# Altium integrated library Renesas Memory.IntLib: 284 symbols (part 1 of 9)
Pins are listed as number, name and electrical type; pins without a type are passive.

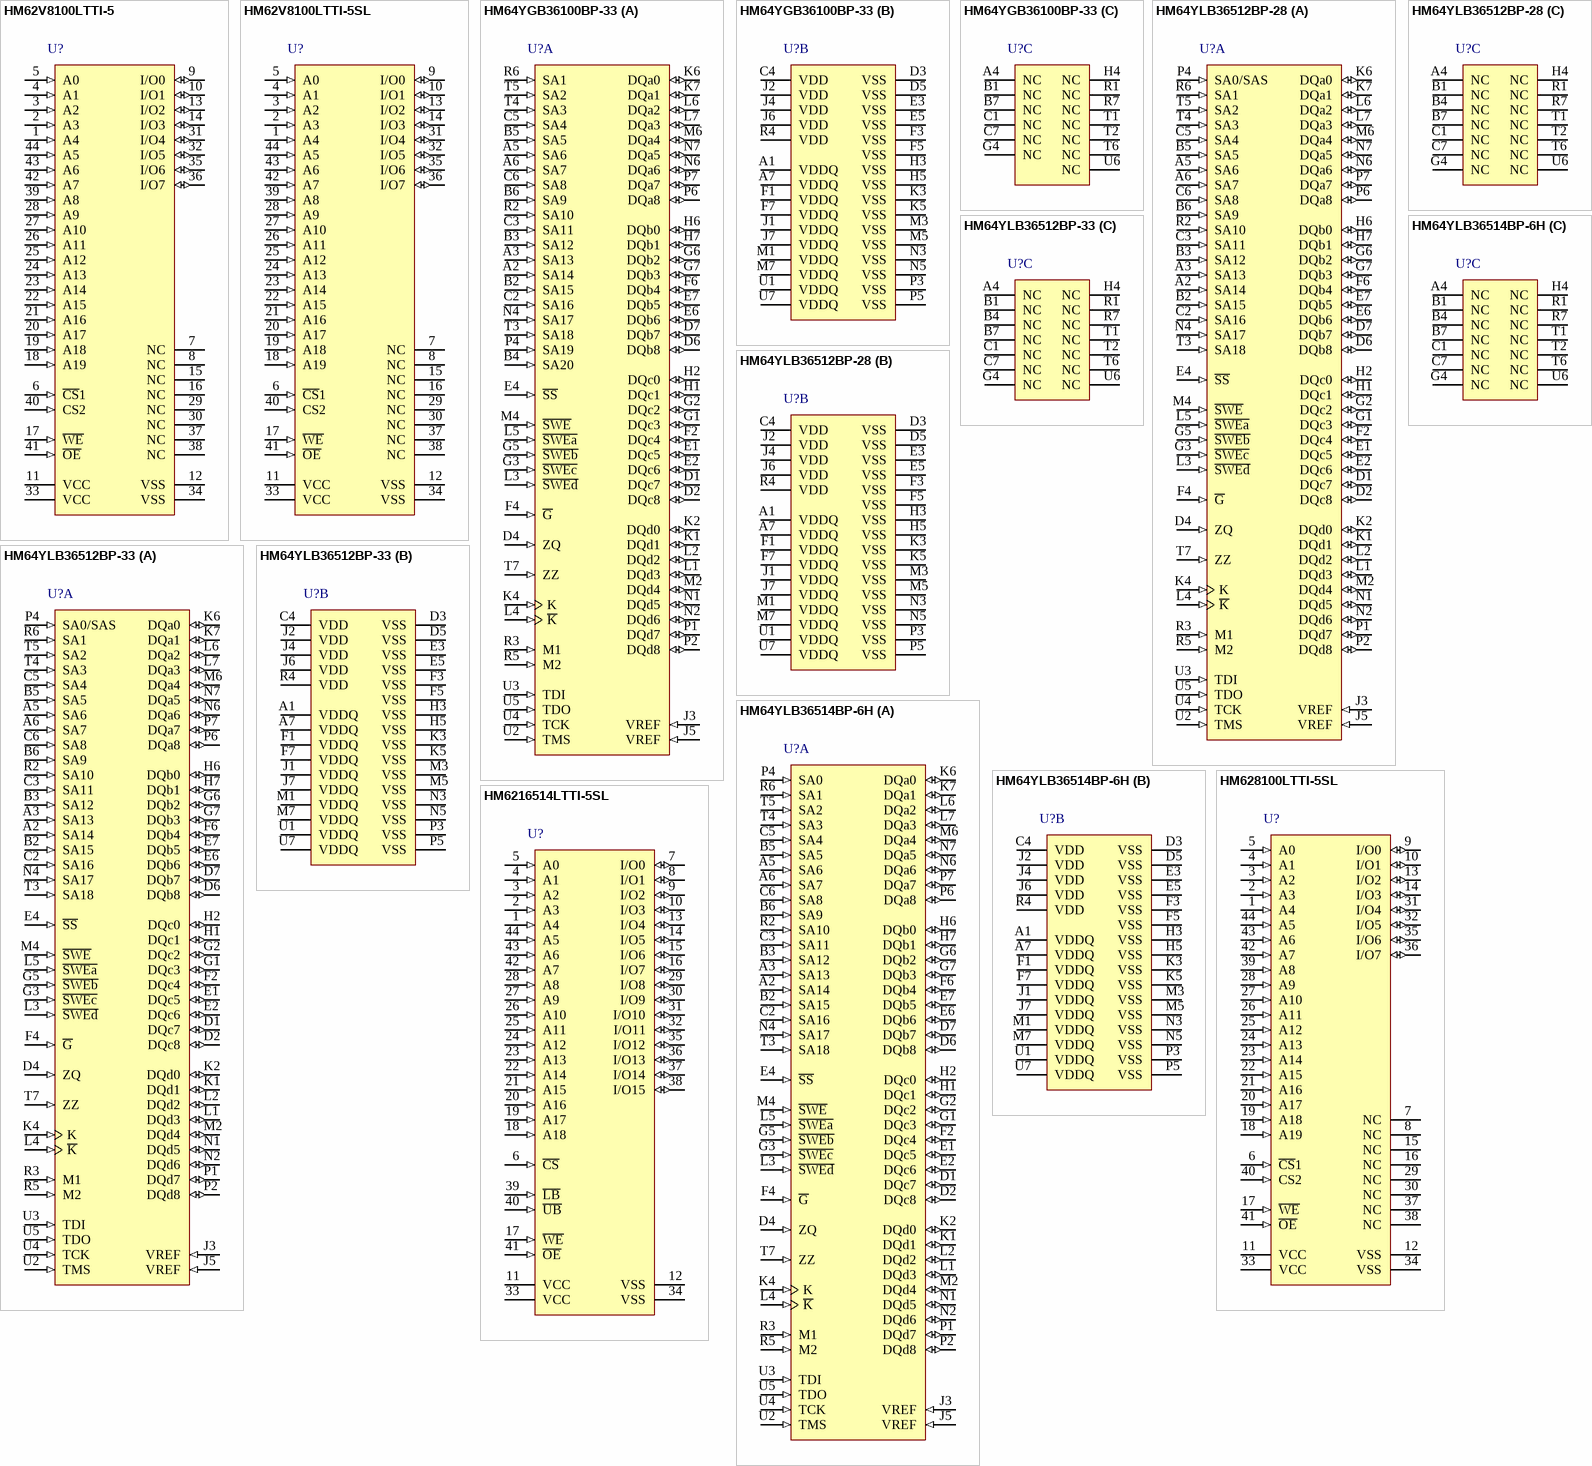
[diagram p0: symbols HM62V8100LTTI-5 to HM6216514LTTI-5SL]

## HM62V8100LTTI-5
designator U?
HM62V8100I Series 8M SRAM (1024-kword x 8-bit) Wide Temperature Range Version; Published: 3-Mar-2010; DatasheetVersion: Rev.1.00, May-2007; PackageVersion: Jun-2006; PackageReference: PTSB0044GC-A; Publisher: Altium Limited; PackageDescription: 44-Pin Plastic Small Outline Package 0.8 mm Pitch; Supplier 1: Digi-Key; Supplier Part Number 1: HM62V8100LTTI-5-ND; Code_JEITA: P-TSOP(2)44-10.16x18.41-0.80; ComponentLink1Description: Manufacturer Link; ComponentLink1URL: http://sg.renesas.com/products/memory/memory_category_landing.jsp; ComponentLink2Description: Datasheet; ComponentLink2URL: http://documentation.renesas.com/eng/products/memory/e2031278_hm62v8100i.pdf; ComponentLink3Description: Packaging Specification; ComponentLink3URL: http://sg.renesas.com/media/products/common_info/package/pdf/ic/code/ptsb0044gc_a.pdf
footprint PTSB0044GC-A_N (SOP, 44-Leads, Body 18.4x10.16mm, Pitch 0.8mm, IPC Medium Density)
footprint PTSB0044GC-A_L (SOP, 44-Leads, Body 18.4x10.16mm, Pitch 0.8mm, IPC High Density)
footprint PTSB0044GC-A_M (SOP, 44-Leads, Body 18.4x10.16mm, Pitch 0.8mm, IPC Low Density)
pins: 1 A4 (in), 2 A3 (in), 3 A2 (in), 4 A1 (in), 5 A0 (in), 6 ~{CS}1 (in), 7 NC, 8 NC, 9 I/O0 (io), 10 I/O1 (io), 11 VCC (power), 12 VSS (power), 13 I/O2 (io), 14 I/O3 (io), 15 NC, 16 NC, 17 ~{WE} (in), 18 A19 (in), 19 A18 (in), 20 A17 (in), 21 A16 (in), 22 A15 (in), 23 A14 (in), 24 A13 (in), 25 A12 (in), 26 A11 (in), 27 A10 (in), 28 A9 (in), 29 NC, 30 NC, 31 I/O4 (io), 32 I/O5 (io), 33 VCC (power), 34 VSS (power), 35 I/O6 (io), 36 I/O7 (io), 37 NC, 38 NC, 39 A8 (in), 40 CS2 (in), 41 ~{OE} (in), 42 A7 (in), 43 A6 (in), 44 A5 (in)

## HM62V8100LTTI-5SL
designator U?
HM62V8100I Series 8M SRAM (1024-kword x 8-bit) Wide Temperature Range Version; Published: 3-Mar-2010; DatasheetVersion: Rev.1.00, May-2007; PackageVersion: Jun-2006; PackageReference: PTSB0044GC-A; Publisher: Altium Limited; PackageDescription: 44-Pin Plastic Small Outline Package 0.8 mm Pitch; Supplier 1: Digi-Key; Supplier Part Number 1: HM62V8100LTTI-5SL-ND; Code_JEITA: P-TSOP(2)44-10.16x18.41-0.80; ComponentLink1Description: Manufacturer Link; ComponentLink1URL: http://sg.renesas.com/products/memory/memory_category_landing.jsp; ComponentLink2Description: Datasheet; ComponentLink2URL: http://documentation.renesas.com/eng/products/memory/e2031278_hm62v8100i.pdf; ComponentLink3Description: Packaging Specification; ComponentLink3URL: http://sg.renesas.com/media/products/common_info/package/pdf/ic/code/ptsb0044gc_a.pdf
footprint PTSB0044GC-A_N (SOP, 44-Leads, Body 18.4x10.16mm, Pitch 0.8mm, IPC Medium Density)
footprint PTSB0044GC-A_L (SOP, 44-Leads, Body 18.4x10.16mm, Pitch 0.8mm, IPC High Density)
footprint PTSB0044GC-A_M (SOP, 44-Leads, Body 18.4x10.16mm, Pitch 0.8mm, IPC Low Density)
pins: 1 A4 (in), 2 A3 (in), 3 A2 (in), 4 A1 (in), 5 A0 (in), 6 ~{CS}1 (in), 7 NC, 8 NC, 9 I/O0 (io), 10 I/O1 (io), 11 VCC (power), 12 VSS (power), 13 I/O2 (io), 14 I/O3 (io), 15 NC, 16 NC, 17 ~{WE} (in), 18 A19 (in), 19 A18 (in), 20 A17 (in), 21 A16 (in), 22 A15 (in), 23 A14 (in), 24 A13 (in), 25 A12 (in), 26 A11 (in), 27 A10 (in), 28 A9 (in), 29 NC, 30 NC, 31 I/O4 (io), 32 I/O5 (io), 33 VCC (power), 34 VSS (power), 35 I/O6 (io), 36 I/O7 (io), 37 NC, 38 NC, 39 A8 (in), 40 CS2 (in), 41 ~{OE} (in), 42 A7 (in), 43 A6 (in), 44 A5 (in)

## HM64YGB36100BP-33
designator U?
HM64YGB36100 Series 32M Synchronous Late Write Fast Static RAM (1-Mword × 36-bit); Published: 3-Mar-2010; DatasheetVersion: Rev.1.0, Jun-2005; PackageVersion: 2005; PackageReference: PRBG0119DC-A; Publisher: Altium Limited; PackageDescription: 119-Bump 14 x 22 mm BGA 1.27 mm Pitch; Code_JEITA: P-BGA119-14x22-1.27; ComponentLink1Description: Manufacturer Link; ComponentLink1URL: http://sg.renesas.com/products/memory/memory_category_landing.jsp; ComponentLink2Description: Datasheet; ComponentLink2URL: http://documentation.renesas.com/eng/products/memory/rej03c0271_r_hm64ygb36100.pdf; ComponentLink3Description: Packaging Specification; ComponentLink3URL: http://sg.renesas.com/media/products/common_info/package/pdf/ic/code/prbg0119dc_a.pdf
footprint PRBG0119DC-A (BGA, 119-Leads, Body 22x14mm, Pitch 1.27mm)
part A pins: A2 SA14 (in), A3 SA13 (in), A5 SA6 (in), A6 SA7 (in), B2 SA15 (in), B3 SA12 (in), B4 SA20 (in), B5 SA5 (in), B6 SA9 (in), C2 SA16 (in), C3 SA11 (in), C5 SA4 (in), C6 SA8 (in), D1 DQc7 (io), D2 DQc8 (io), D4 ZQ (in), D6 DQb8 (io), D7 DQb7 (io), E1 DQc5 (io), E2 DQc6 (io), E4 ~{SS} (in), E6 DQb6 (io), E7 DQb5 (io), F2 DQc4 (io), F4 ~{G} (in), F6 DQb4 (io), G1 DQc3 (io), G2 DQc2 (io), G3 ~{SWEc} (in), G5 ~{SWEb} (in), G6 DQb2 (io), G7 DQb3 (io), H1 DQc1 (io), H2 DQc0 (io), H6 DQb0 (io), H7 DQb1 (io), J3 VREF (in), J5 VREF (in), K1 DQd1 (io), K2 DQd0 (io), K4 K (in), K6 DQa0 (io), K7 DQa1 (io), L1 DQd3 (io), L2 DQd2 (io), L3 ~{SWEd} (in), L4 ~{K} (in), L5 ~{SWEa} (in), L6 DQa2 (io), L7 DQa3 (io), M2 DQd4 (io), M4 ~{SWE} (in), M6 DQa4 (io), N1 DQd5 (io), N2 DQd6 (io), N4 SA17 (in), N6 DQa6 (io), N7 DQa5 (io), P1 DQd7 (io), P2 DQd8 (io), P4 SA19 (in), P6 DQa8 (io), P7 DQa7 (io), R2 SA10 (in), R3 M1 (in), R5 M2 (in), R6 SA1 (in), T3 SA18 (in), T4 SA3 (in), T5 SA2 (in), T7 ZZ (in), U2 TMS (in), U3 TDI (in), U4 TCK (in), U5 TDO (in)
part B pins: A1 VDDQ (power), A7 VDDQ (power), C4 VDD (power), D3 VSS (power), D5 VSS (power), E3 VSS (power), E5 VSS (power), F1 VDDQ (power), F3 VSS (power), F5 VSS (power), F7 VDDQ (power), H3 VSS (power), H5 VSS (power), J1 VDDQ (power), J2 VDD (power), J4 VDD (power), J6 VDD (power), J7 VDDQ (power), K3 VSS (power), K5 VSS (power), M1 VDDQ (power), M3 VSS (power), M5 VSS (power), M7 VDDQ (power), N3 VSS (power), N5 VSS (power), P3 VSS (power), P5 VSS (power), R4 VDD (power), U1 VDDQ (power), U7 VDDQ (power)
part C pins: A4 NC, B1 NC, B7 NC, C1 NC, C7 NC, G4 NC, H4 NC, R1 NC, R7 NC, T1 NC, T2 NC, T6 NC, U6 NC

## HM64YLB36512BP-28
designator U?
HM64YLB36512 Series 16M Synchronous Late Write Fast Static RAM (512-kword × 36-bit); Published: 3-Mar-2010; DatasheetVersion: Rev.3.00, Jan-2006; PackageVersion: 2003; PackageReference: PRBG0119DB-A; Publisher: Altium Limited; PackageDescription: 119-Bump 14 x 22 mm BGA 1.27 mm Pitch (BP-119E); ComponentLink1Description: Manufacturer Link; ComponentLink1URL: http://sg.renesas.com/products/memory/memory_category_landing.jsp; ComponentLink2Description: Datasheet; ComponentLink2URL: http://documentation.renesas.com/eng/products/memory/rej03c0270_r_hm64ylb36512ds.pdf; ComponentLink3Description: Packaging Specification; ComponentLink3URL: http://sg.renesas.com/media/products/common_info/package/pdf/ic/code/prbg0119db_a.pdf
footprint PRBG0119DB-A (BGA, 119-Leads, Body 22x14mm, Pitch 1.27mm)
part A pins: A2 SA14 (in), A3 SA13 (in), A5 SA6 (in), A6 SA7 (in), B2 SA15 (in), B3 SA12 (in), B5 SA5 (in), B6 SA9 (in), C2 SA16 (in), C3 SA11 (in), C5 SA4 (in), C6 SA8 (in), D1 DQc7 (io), D2 DQc8 (io), D4 ZQ (in), D6 DQb8 (io), D7 DQb7 (io), E1 DQc5 (io), E2 DQc6 (io), E4 ~{SS} (in), E6 DQb6 (io), E7 DQb5 (io), F2 DQc4 (io), F4 ~{G} (in), F6 DQb4 (io), G1 DQc3 (io), G2 DQc2 (io), G3 ~{SWEc} (in), G5 ~{SWEb} (in), G6 DQb2 (io), G7 DQb3 (io), H1 DQc1 (io), H2 DQc0 (io), H6 DQb0 (io), H7 DQb1 (io), J3 VREF (in), J5 VREF (in), K1 DQd1 (io), K2 DQd0 (io), K4 K (in), K6 DQa0 (io), K7 DQa1 (io), L1 DQd3 (io), L2 DQd2 (io), L3 ~{SWEd} (in), L4 ~{K} (in), L5 ~{SWEa} (in), L6 DQa2 (io), L7 DQa3 (io), M2 DQd4 (io), M4 ~{SWE} (in), M6 DQa4 (io), N1 DQd5 (io), N2 DQd6 (io), N4 SA17 (in), N6 DQa6 (io), N7 DQa5 (io), P1 DQd7 (io), P2 DQd8 (io), P4 SA0/SAS (in), P6 DQa8 (io), P7 DQa7 (io), R2 SA10 (in), R3 M1 (in), R5 M2 (in), R6 SA1 (in), T3 SA18 (in), T4 SA3 (in), T5 SA2 (in), T7 ZZ (in), U2 TMS (in), U3 TDI (in), U4 TCK (in), U5 TDO (in)
part B pins: A1 VDDQ (power), A7 VDDQ (power), C4 VDD (power), D3 VSS (power), D5 VSS (power), E3 VSS (power), E5 VSS (power), F1 VDDQ (power), F3 VSS (power), F5 VSS (power), F7 VDDQ (power), H3 VSS (power), H5 VSS (power), J1 VDDQ (power), J2 VDD (power), J4 VDD (power), J6 VDD (power), J7 VDDQ (power), K3 VSS (power), K5 VSS (power), M1 VDDQ (power), M3 VSS (power), M5 VSS (power), M7 VDDQ (power), N3 VSS (power), N5 VSS (power), P3 VSS (power), P5 VSS (power), R4 VDD (power), U1 VDDQ (power), U7 VDDQ (power)
part C pins: A4 NC, B1 NC, B4 NC, B7 NC, C1 NC, C7 NC, G4 NC, H4 NC, R1 NC, R7 NC, T1 NC, T2 NC, T6 NC, U6 NC

## HM64YLB36512BP-33
designator U?
HM64YLB36512 Series 16M Synchronous Late Write Fast Static RAM (512-kword × 36-bit); Published: 3-Mar-2010; DatasheetVersion: Rev.3.00, Jan-2006; PackageVersion: 2003; PackageReference: PRBG0119DB-A; Publisher: Altium Limited; PackageDescription: 119-Bump 14 x 22 mm BGA 1.27 mm Pitch (BP-119E); ComponentLink1Description: Manufacturer Link; ComponentLink1URL: http://sg.renesas.com/products/memory/memory_category_landing.jsp; ComponentLink2Description: Datasheet; ComponentLink2URL: http://documentation.renesas.com/eng/products/memory/rej03c0270_r_hm64ylb36512ds.pdf; ComponentLink3Description: Packaging Specification; ComponentLink3URL: http://sg.renesas.com/media/products/common_info/package/pdf/ic/code/prbg0119db_a.pdf
footprint PRBG0119DB-A (BGA, 119-Leads, Body 22x14mm, Pitch 1.27mm)
part A pins: A2 SA14 (in), A3 SA13 (in), A5 SA6 (in), A6 SA7 (in), B2 SA15 (in), B3 SA12 (in), B5 SA5 (in), B6 SA9 (in), C2 SA16 (in), C3 SA11 (in), C5 SA4 (in), C6 SA8 (in), D1 DQc7 (io), D2 DQc8 (io), D4 ZQ (in), D6 DQb8 (io), D7 DQb7 (io), E1 DQc5 (io), E2 DQc6 (io), E4 ~{SS} (in), E6 DQb6 (io), E7 DQb5 (io), F2 DQc4 (io), F4 ~{G} (in), F6 DQb4 (io), G1 DQc3 (io), G2 DQc2 (io), G3 ~{SWEc} (in), G5 ~{SWEb} (in), G6 DQb2 (io), G7 DQb3 (io), H1 DQc1 (io), H2 DQc0 (io), H6 DQb0 (io), H7 DQb1 (io), J3 VREF (in), J5 VREF (in), K1 DQd1 (io), K2 DQd0 (io), K4 K (in), K6 DQa0 (io), K7 DQa1 (io), L1 DQd3 (io), L2 DQd2 (io), L3 ~{SWEd} (in), L4 ~{K} (in), L5 ~{SWEa} (in), L6 DQa2 (io), L7 DQa3 (io), M2 DQd4 (io), M4 ~{SWE} (in), M6 DQa4 (io), N1 DQd5 (io), N2 DQd6 (io), N4 SA17 (in), N6 DQa6 (io), N7 DQa5 (io), P1 DQd7 (io), P2 DQd8 (io), P4 SA0/SAS (in), P6 DQa8 (io), P7 DQa7 (io), R2 SA10 (in), R3 M1 (in), R5 M2 (in), R6 SA1 (in), T3 SA18 (in), T4 SA3 (in), T5 SA2 (in), T7 ZZ (in), U2 TMS (in), U3 TDI (in), U4 TCK (in), U5 TDO (in)
part B pins: A1 VDDQ (power), A7 VDDQ (power), C4 VDD (power), D3 VSS (power), D5 VSS (power), E3 VSS (power), E5 VSS (power), F1 VDDQ (power), F3 VSS (power), F5 VSS (power), F7 VDDQ (power), H3 VSS (power), H5 VSS (power), J1 VDDQ (power), J2 VDD (power), J4 VDD (power), J6 VDD (power), J7 VDDQ (power), K3 VSS (power), K5 VSS (power), M1 VDDQ (power), M3 VSS (power), M5 VSS (power), M7 VDDQ (power), N3 VSS (power), N5 VSS (power), P3 VSS (power), P5 VSS (power), R4 VDD (power), U1 VDDQ (power), U7 VDDQ (power)
part C pins: A4 NC, B1 NC, B4 NC, B7 NC, C1 NC, C7 NC, G4 NC, H4 NC, R1 NC, R7 NC, T1 NC, T2 NC, T6 NC, U6 NC

## HM64YLB36514BP-6H
designator U?
HM64YLB36514 Series 16M Synchronous Late Write Fast Static RAM (512-kword × 36-bit, Register-Latch Mode); Published: 3-Mar-2010; DatasheetVersion: Rev.0.10, May-2003; PackageVersion: 2003; PackageReference: PRBG0119DB-A; Publisher: Altium Limited; PackageDescription: 119-Bump 14 x 22 mm BGA 1.27 mm Pitch (BP-119E); ComponentLink1Description: Manufacturer Link; ComponentLink1URL: http://sg.renesas.com/products/memory/memory_category_landing.jsp; ComponentLink2Description: Datasheet; ComponentLink2URL: http://documentation.renesas.com/eng/products/memory/rej03c0039_hm64ylb36514.pdf; ComponentLink3Description: Packaging Specification; ComponentLink3URL: http://sg.renesas.com/media/products/common_info/package/pdf/ic/code/prbg0119db_a.pdf
footprint PRBG0119DB-A (BGA, 119-Leads, Body 22x14mm, Pitch 1.27mm)
part A pins: A2 SA14 (in), A3 SA13 (in), A5 SA6 (in), A6 SA7 (in), B2 SA15 (in), B3 SA12 (in), B5 SA5 (in), B6 SA9 (in), C2 SA16 (in), C3 SA11 (in), C5 SA4 (in), C6 SA8 (in), D1 DQc7 (io), D2 DQc8 (io), D4 ZQ (in), D6 DQb8 (io), D7 DQb7 (io), E1 DQc5 (io), E2 DQc6 (io), E4 ~{SS} (in), E6 DQb6 (io), E7 DQb5 (io), F2 DQc4 (io), F4 ~{G} (in), F6 DQb4 (io), G1 DQc3 (io), G2 DQc2 (io), G3 ~{SWEc} (in), G5 ~{SWEb} (in), G6 DQb2 (io), G7 DQb3 (io), H1 DQc1 (io), H2 DQc0 (io), H6 DQb0 (io), H7 DQb1 (io), J3 VREF (in), J5 VREF (in), K1 DQd1 (io), K2 DQd0 (io), K4 K (in), K6 DQa0 (io), K7 DQa1 (io), L1 DQd3 (io), L2 DQd2 (io), L3 ~{SWEd} (in), L4 ~{K} (in), L5 ~{SWEa} (in), L6 DQa2 (io), L7 DQa3 (io), M2 DQd4 (io), M4 ~{SWE} (in), M6 DQa4 (io), N1 DQd5 (io), N2 DQd6 (io), N4 SA17 (in), N6 DQa6 (io), N7 DQa5 (io), P1 DQd7 (io), P2 DQd8 (io), P4 SA0 (in), P6 DQa8 (io), P7 DQa7 (io), R2 SA10 (in), R3 M1 (in), R5 M2 (in), R6 SA1 (in), T3 SA18 (in), T4 SA3 (in), T5 SA2 (in), T7 ZZ (in), U2 TMS (in), U3 TDI (in), U4 TCK (in), U5 TDO (in)
part B pins: A1 VDDQ (power), A7 VDDQ (power), C4 VDD (power), D3 VSS (power), D5 VSS (power), E3 VSS (power), E5 VSS (power), F1 VDDQ (power), F3 VSS (power), F5 VSS (power), F7 VDDQ (power), H3 VSS (power), H5 VSS (power), J1 VDDQ (power), J2 VDD (power), J4 VDD (power), J6 VDD (power), J7 VDDQ (power), K3 VSS (power), K5 VSS (power), M1 VDDQ (power), M3 VSS (power), M5 VSS (power), M7 VDDQ (power), N3 VSS (power), N5 VSS (power), P3 VSS (power), P5 VSS (power), R4 VDD (power), U1 VDDQ (power), U7 VDDQ (power)
part C pins: A4 NC, B1 NC, B4 NC, B7 NC, C1 NC, C7 NC, G4 NC, H4 NC, R1 NC, R7 NC, T1 NC, T2 NC, T6 NC, U6 NC

## HM628100LTTI-5SL
designator U?
HM628100I Series 8M SRAM (1024-kword x 8-bit) Wide Temperature Range Version; Published: 3-Mar-2010; DatasheetVersion: Rev.1.00, May-2007; PackageVersion: Jun-2006; PackageReference: PTSB0044GC-A; Publisher: Altium Limited; PackageDescription: 44-Pin Plastic Small Outline Package 0.8 mm Pitch; Code_JEITA: P-TSOP(2)44-10.16x18.41-0.80; ComponentLink1Description: Manufacturer Link; ComponentLink1URL: http://sg.renesas.com/products/memory/memory_category_landing.jsp; ComponentLink2Description: Datasheet; ComponentLink2URL: http://documentation.renesas.com/eng/products/memory/e2031302_hm628100i.pdf; ComponentLink3Description: Packaging Specification; ComponentLink3URL: http://sg.renesas.com/media/products/common_info/package/pdf/ic/code/ptsb0044gc_a.pdf
footprint PTSB0044GC-A_N (SOP, 44-Leads, Body 18.4x10.16mm, Pitch 0.8mm, IPC Medium Density)
footprint PTSB0044GC-A_L (SOP, 44-Leads, Body 18.4x10.16mm, Pitch 0.8mm, IPC High Density)
footprint PTSB0044GC-A_M (SOP, 44-Leads, Body 18.4x10.16mm, Pitch 0.8mm, IPC Low Density)
pins: 1 A4 (in), 2 A3 (in), 3 A2 (in), 4 A1 (in), 5 A0 (in), 6 ~{CS}1 (in), 7 NC, 8 NC, 9 I/O0 (io), 10 I/O1 (io), 11 VCC (power), 12 VSS (power), 13 I/O2 (io), 14 I/O3 (io), 15 NC, 16 NC, 17 ~{WE} (in), 18 A19 (in), 19 A18 (in), 20 A17 (in), 21 A16 (in), 22 A15 (in), 23 A14 (in), 24 A13 (in), 25 A12 (in), 26 A11 (in), 27 A10 (in), 28 A9 (in), 29 NC, 30 NC, 31 I/O4 (io), 32 I/O5 (io), 33 VCC (power), 34 VSS (power), 35 I/O6 (io), 36 I/O7 (io), 37 NC, 38 NC, 39 A8 (in), 40 CS2 (in), 41 ~{OE} (in), 42 A7 (in), 43 A6 (in), 44 A5 (in)

## HM6216514LTTI-5SL
designator U?
HM6216514I Series 8M SRAM (512-kword x 16-bit) Wide Temperature Range Version; Published: 3-Mar-2010; DatasheetVersion: Rev.1.00, Oct-2002; PackageVersion: Jun-2006; PackageReference: PTSB0044GC-A; Publisher: Altium Limited; PackageDescription: 44-Pin Plastic Small Outline Package 0.8 mm Pitch; Code_JEITA: P-TSOP(2)44-10.16x18.41-0.80; ComponentLink1Description: Manufacturer Link; ComponentLink1URL: http://sg.renesas.com/products/memory/memory_category_landing.jsp; ComponentLink2Description: Datasheet; ComponentLink2URL: http://documentation.renesas.com/eng/products/memory/e2031303_hm6216514i.pdf; ComponentLink3Description: Packaging Specification; ComponentLink3URL: http://sg.renesas.com/media/products/common_info/package/pdf/ic/code/ptsb0044gc_a.pdf
footprint PTSB0044GC-A_N (SOP, 44-Leads, Body 18.4x10.16mm, Pitch 0.8mm, IPC Medium Density)
footprint PTSB0044GC-A_L (SOP, 44-Leads, Body 18.4x10.16mm, Pitch 0.8mm, IPC High Density)
footprint PTSB0044GC-A_M (SOP, 44-Leads, Body 18.4x10.16mm, Pitch 0.8mm, IPC Low Density)
pins: 1 A4 (in), 2 A3 (in), 3 A2 (in), 4 A1 (in), 5 A0 (in), 6 ~{CS} (in), 7 I/O0 (io), 8 I/O1 (io), 9 I/O2 (io), 10 I/O3 (io), 11 VCC (power), 12 VSS (power), 13 I/O4 (io), 14 I/O5 (io), 15 I/O6 (io), 16 I/O7 (io), 17 ~{WE} (in), 18 A18 (in), 19 A17 (in), 20 A16 (in), 21 A15 (in), 22 A14 (in), 23 A13 (in), 24 A12 (in), 25 A11 (in), 26 A10 (in), 27 A9 (in), 28 A8 (in), 29 I/O8 (io), 30 I/O9 (io), 31 I/O10 (io), 32 I/O11 (io), 33 VCC (power), 34 VSS (power), 35 I/O12 (io), 36 I/O13 (io), 37 I/O14 (io), 38 I/O15 (io), 39 ~{LB} (in), 40 ~{UB} (in), 41 ~{OE} (in), 42 A7 (in), 43 A6 (in), 44 A5 (in)

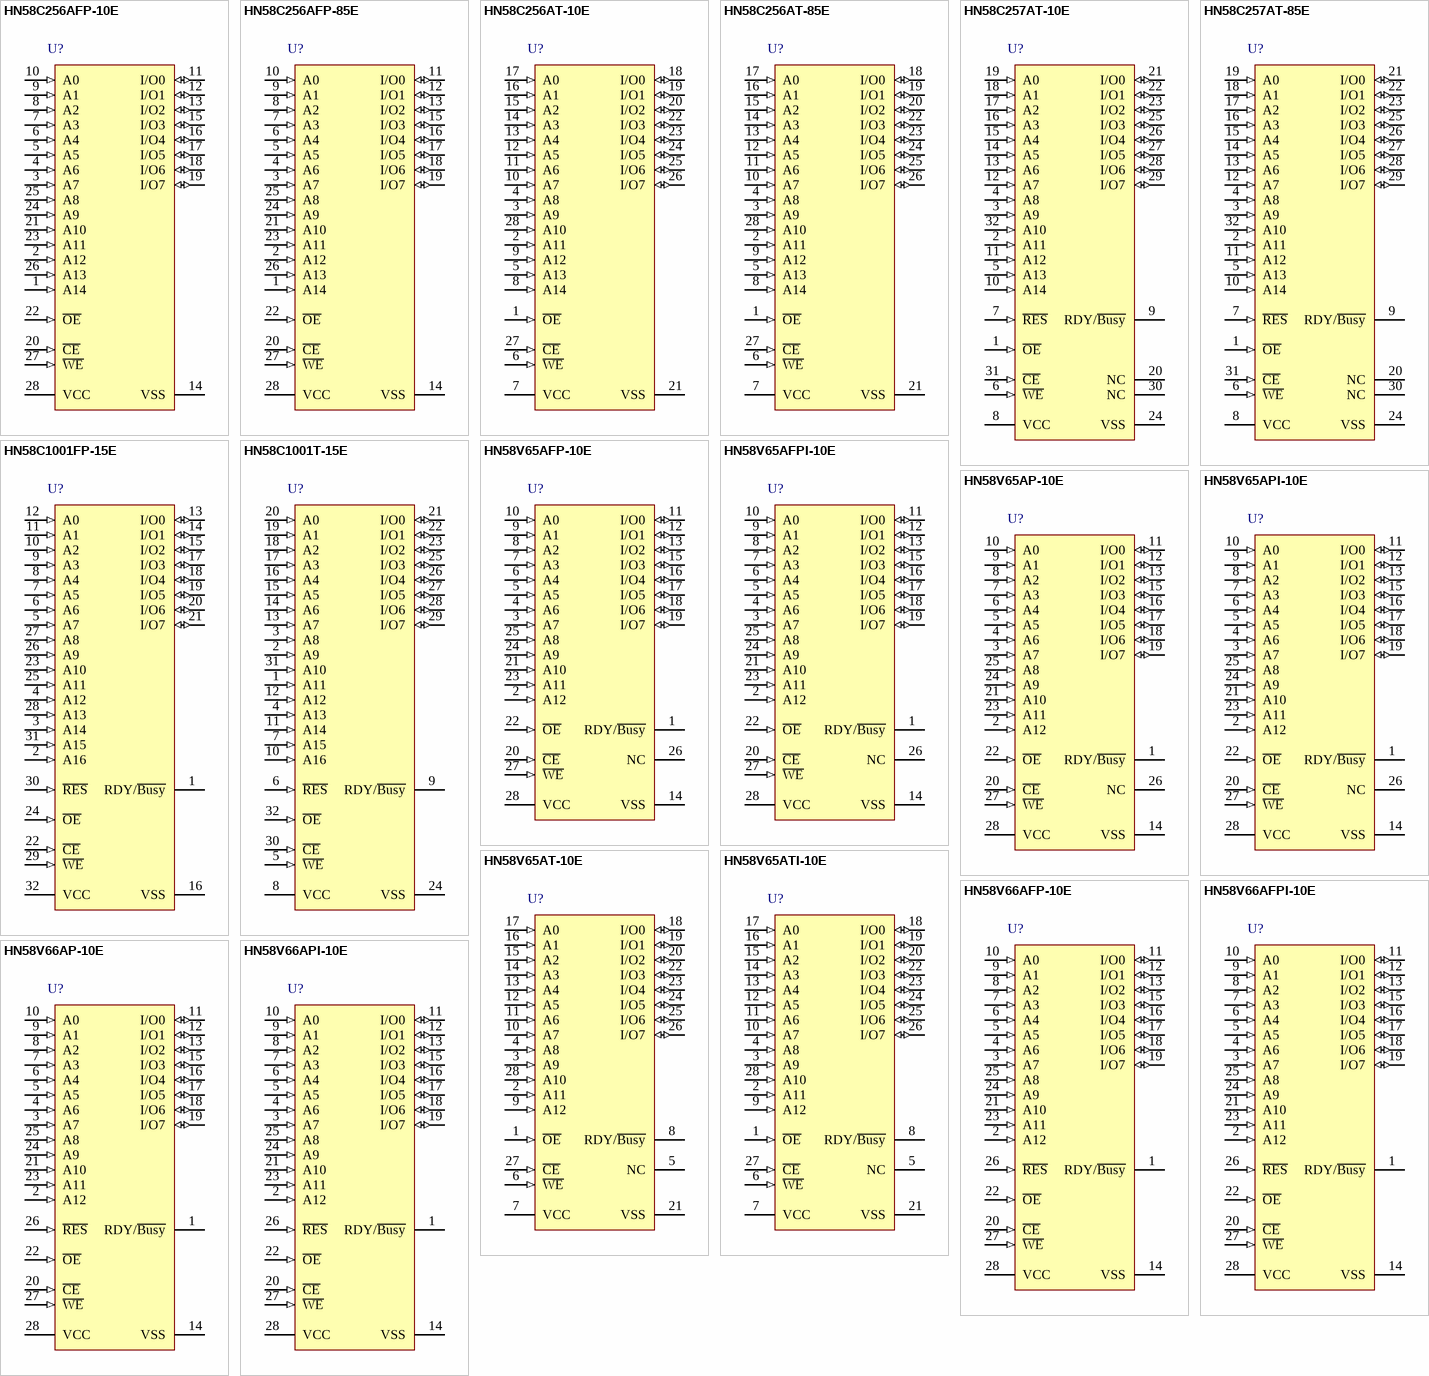
[diagram p1: symbols HN58C256AFP-10E to HN58V66API-10E]

## HN58C256AFP-10E
designator U?
HN58C256A Series 256k EEPROM (32-kword × 8-bit); Published: 3-Mar-2010; DatasheetVersion: Rev.6.00, Oct-2006; PackageVersion: Sep-2005; PackageReference: PRSP0028DC-A; Publisher: Altium Limited; PackageDescription: 28-Pin Small Outline Integrated Circuit 1.27 mm Pitch; Code_JEITA: P-SOP28-8.4x18.3-1.27; ComponentLink1Description: Manufacturer Link; ComponentLink1URL: http://sg.renesas.com/products/memory/memory_category_landing.jsp; ComponentLink2Description: Datasheet; ComponentLink2URL: http://documentation.renesas.com/eng/products/memory/rej03c0148_hn58c25xa.pdf; ComponentLink3Description: Packaging Specification; ComponentLink3URL: http://sg.renesas.com/media/products/common_info/package/pdf/ic/code/prsp0028dc_a.pdf
footprint PRSP0028DC-A_N (SOIC, 28-Leads, Body 18.3x8.4mm, Pitch 1.27mm, IPC Medium Density)
footprint PRSP0028DC-A_L (SOIC, 28-Leads, Body 18.3x8.4mm, Pitch 1.27mm, IPC High Density)
footprint PRSP0028DC-A_M (SOIC, 28-Leads, Body 18.3x8.4mm, Pitch 1.27mm, IPC Low Density)
pins: 1 A14 (in), 2 A12 (in), 3 A7 (in), 4 A6 (in), 5 A5 (in), 6 A4 (in), 7 A3 (in), 8 A2 (in), 9 A1 (in), 10 A0 (in), 11 I/O0 (io), 12 I/O1 (io), 13 I/O2 (io), 14 VSS (power), 15 I/O3 (io), 16 I/O4 (io), 17 I/O5 (io), 18 I/O6 (io), 19 I/O7 (io), 20 ~{CE} (in), 21 A10 (in), 22 ~{OE} (in), 23 A11 (in), 24 A9 (in), 25 A8 (in), 26 A13 (in), 27 ~{WE} (in), 28 VCC (power)

## HN58C256AFP-85E
designator U?
HN58C256A Series 256k EEPROM (32-kword × 8-bit); Published: 3-Mar-2010; DatasheetVersion: Rev.6.00, Oct-2006; PackageVersion: Sep-2005; PackageReference: PRSP0028DC-A; Publisher: Altium Limited; PackageDescription: 28-Pin Small Outline Integrated Circuit 1.27 mm Pitch; Code_JEITA: P-SOP28-8.4x18.3-1.27; ComponentLink1Description: Manufacturer Link; ComponentLink1URL: http://sg.renesas.com/products/memory/memory_category_landing.jsp; ComponentLink2Description: Datasheet; ComponentLink2URL: http://documentation.renesas.com/eng/products/memory/rej03c0148_hn58c25xa.pdf; ComponentLink3Description: Packaging Specification; ComponentLink3URL: http://sg.renesas.com/media/products/common_info/package/pdf/ic/code/prsp0028dc_a.pdf
footprint PRSP0028DC-A_N (SOIC, 28-Leads, Body 18.3x8.4mm, Pitch 1.27mm, IPC Medium Density)
footprint PRSP0028DC-A_L (SOIC, 28-Leads, Body 18.3x8.4mm, Pitch 1.27mm, IPC High Density)
footprint PRSP0028DC-A_M (SOIC, 28-Leads, Body 18.3x8.4mm, Pitch 1.27mm, IPC Low Density)
pins: 1 A14 (in), 2 A12 (in), 3 A7 (in), 4 A6 (in), 5 A5 (in), 6 A4 (in), 7 A3 (in), 8 A2 (in), 9 A1 (in), 10 A0 (in), 11 I/O0 (io), 12 I/O1 (io), 13 I/O2 (io), 14 VSS (power), 15 I/O3 (io), 16 I/O4 (io), 17 I/O5 (io), 18 I/O6 (io), 19 I/O7 (io), 20 ~{CE} (in), 21 A10 (in), 22 ~{OE} (in), 23 A11 (in), 24 A9 (in), 25 A8 (in), 26 A13 (in), 27 ~{WE} (in), 28 VCC (power)

## HN58C256AT-10E
designator U?
HN58C256A Series 256k EEPROM (32-kword × 8-bit); Published: 3-Mar-2010; DatasheetVersion: Rev.6.00, Oct-2006; PackageVersion: Jun-2006; PackageReference: PTSA0028ZB-A; Publisher: Altium Limited; PackageDescription: 28-Pin Plastic Thin Shrink Small Outline Package 0.55 mm Pitch; Code_JEITA: P-TSOP(1)28-8x11.8-0.55; ComponentLink1Description: Manufacturer Link; ComponentLink1URL: http://sg.renesas.com/products/memory/memory_category_landing.jsp; ComponentLink2Description: Datasheet; ComponentLink2URL: http://documentation.renesas.com/eng/products/memory/rej03c0148_hn58c25xa.pdf; ComponentLink3Description: Packaging Specification; ComponentLink3URL: http://sg.renesas.com/media/products/common_info/package/pdf/ic/code/ptsa0028zb_a.pdf
footprint PTSA0028ZB-A_N (TSSOP, 28-Leads, Body 8x11.8mm, Pitch 0.55mm, IPC Medium Density)
footprint PTSA0028ZB-A_L (TSSOP, 28-Leads, Body 8x11.8mm, Pitch 0.55mm, IPC High Density)
footprint PTSA0028ZB-A_M (TSSOP, 28-Leads, Body 8x11.8mm, Pitch 0.55mm, IPC Low Density)
pins: 1 ~{OE} (in), 2 A11 (in), 3 A9 (in), 4 A8 (in), 5 A13 (in), 6 ~{WE} (in), 7 VCC (power), 8 A14 (in), 9 A12 (in), 10 A7 (in), 11 A6 (in), 12 A5 (in), 13 A4 (in), 14 A3 (in), 15 A2 (in), 16 A1 (in), 17 A0 (in), 18 I/O0 (io), 19 I/O1 (io), 20 I/O2 (io), 21 VSS (power), 22 I/O3 (io), 23 I/O4 (io), 24 I/O5 (io), 25 I/O6 (io), 26 I/O7 (io), 27 ~{CE} (in), 28 A10 (in)

## HN58C256AT-85E
designator U?
HN58C256A Series 256k EEPROM (32-kword × 8-bit); Published: 3-Mar-2010; DatasheetVersion: Rev.6.00, Oct-2006; PackageVersion: Jun-2006; PackageReference: PTSA0028ZB-A; Publisher: Altium Limited; PackageDescription: 28-Pin Plastic Thin Shrink Small Outline Package 0.55 mm Pitch; Code_JEITA: P-TSOP(1)28-8x11.8-0.55; ComponentLink1Description: Manufacturer Link; ComponentLink1URL: http://sg.renesas.com/products/memory/memory_category_landing.jsp; ComponentLink2Description: Datasheet; ComponentLink2URL: http://documentation.renesas.com/eng/products/memory/rej03c0148_hn58c25xa.pdf; ComponentLink3Description: Packaging Specification; ComponentLink3URL: http://sg.renesas.com/media/products/common_info/package/pdf/ic/code/ptsa0028zb_a.pdf
footprint PTSA0028ZB-A_N (TSSOP, 28-Leads, Body 8x11.8mm, Pitch 0.55mm, IPC Medium Density)
footprint PTSA0028ZB-A_L (TSSOP, 28-Leads, Body 8x11.8mm, Pitch 0.55mm, IPC High Density)
footprint PTSA0028ZB-A_M (TSSOP, 28-Leads, Body 8x11.8mm, Pitch 0.55mm, IPC Low Density)
pins: 1 ~{OE} (in), 2 A11 (in), 3 A9 (in), 4 A8 (in), 5 A13 (in), 6 ~{WE} (in), 7 VCC (power), 8 A14 (in), 9 A12 (in), 10 A7 (in), 11 A6 (in), 12 A5 (in), 13 A4 (in), 14 A3 (in), 15 A2 (in), 16 A1 (in), 17 A0 (in), 18 I/O0 (io), 19 I/O1 (io), 20 I/O2 (io), 21 VSS (power), 22 I/O3 (io), 23 I/O4 (io), 24 I/O5 (io), 25 I/O6 (io), 26 I/O7 (io), 27 ~{CE} (in), 28 A10 (in)

## HN58C257AT-10E
designator U?
HN58C257A Series 256k EEPROM (32-kword × 8-bit) Ready/Busy and RES function; Published: 3-Mar-2010; DatasheetVersion: Rev.6.00, Oct-2006; PackageVersion: Oct-2006; PackageReference: PTSA0032KD-A; Publisher: Altium Limited; PackageDescription: 32-Pin Plastic Thin Shrink Small Outline Package 0.5 mm Pitch; Code_JEITA: P-TSOP(1)32-8x12.4-0.50; ComponentLink1Description: Manufacturer Link; ComponentLink1URL: http://sg.renesas.com/products/memory/memory_category_landing.jsp; ComponentLink2Description: Datasheet; ComponentLink2URL: http://documentation.renesas.com/eng/products/memory/rej03c0148_hn58c25xa.pdf; ComponentLink3Description: Packaging Specification; ComponentLink3URL: http://sg.renesas.com/media/products/common_info/package/pdf/ic/code/ptsa0032kd_a.pdf
footprint PTSA0032KD-A_N (TSSOP, 32-Leads, Body 8x12.4mm, Pitch 0.5mm, IPC Medium Density)
footprint PTSA0032KD-A_L (TSSOP, 32-Leads, Body 8x12.4mm, Pitch 0.5mm, IPC High Density)
footprint PTSA0032KD-A_M (TSSOP, 32-Leads, Body 8x12.4mm, Pitch 0.5mm, IPC Low Density)
pins: 1 ~{OE} (in), 2 A11 (in), 3 A9 (in), 4 A8 (in), 5 A13 (in), 6 ~{WE} (in), 7 ~{RES} (in), 8 VCC (power), 9 RDY/~{Busy} (hiz), 10 A14 (in), 11 A12 (in), 12 A7 (in), 13 A6 (in), 14 A5 (in), 15 A4 (in), 16 A3 (in), 17 A2 (in), 18 A1 (in), 19 A0 (in), 20 NC, 21 I/O0 (io), 22 I/O1 (io), 23 I/O2 (io), 24 VSS (power), 25 I/O3 (io), 26 I/O4 (io), 27 I/O5 (io), 28 I/O6 (io), 29 I/O7 (io), 30 NC, 31 ~{CE} (in), 32 A10 (in)

## HN58C257AT-85E
designator U?
HN58C257A Series 256k EEPROM (32-kword × 8-bit) Ready/Busy and RES function; Published: 3-Mar-2010; DatasheetVersion: Rev.6.00, Oct-2006; PackageVersion: Oct-2006; PackageReference: PTSA0032KD-A; Publisher: Altium Limited; PackageDescription: 32-Pin Plastic Thin Shrink Small Outline Package 0.5 mm Pitch; Code_JEITA: P-TSOP(1)32-8x12.4-0.50; ComponentLink1Description: Manufacturer Link; ComponentLink1URL: http://sg.renesas.com/products/memory/memory_category_landing.jsp; ComponentLink2Description: Datasheet; ComponentLink2URL: http://documentation.renesas.com/eng/products/memory/rej03c0148_hn58c25xa.pdf; ComponentLink3Description: Packaging Specification; ComponentLink3URL: http://sg.renesas.com/media/products/common_info/package/pdf/ic/code/ptsa0032kd_a.pdf
footprint PTSA0032KD-A_N (TSSOP, 32-Leads, Body 8x12.4mm, Pitch 0.5mm, IPC Medium Density)
footprint PTSA0032KD-A_L (TSSOP, 32-Leads, Body 8x12.4mm, Pitch 0.5mm, IPC High Density)
footprint PTSA0032KD-A_M (TSSOP, 32-Leads, Body 8x12.4mm, Pitch 0.5mm, IPC Low Density)
pins: 1 ~{OE} (in), 2 A11 (in), 3 A9 (in), 4 A8 (in), 5 A13 (in), 6 ~{WE} (in), 7 ~{RES} (in), 8 VCC (power), 9 RDY/~{Busy} (hiz), 10 A14 (in), 11 A12 (in), 12 A7 (in), 13 A6 (in), 14 A5 (in), 15 A4 (in), 16 A3 (in), 17 A2 (in), 18 A1 (in), 19 A0 (in), 20 NC, 21 I/O0 (io), 22 I/O1 (io), 23 I/O2 (io), 24 VSS (power), 25 I/O3 (io), 26 I/O4 (io), 27 I/O5 (io), 28 I/O6 (io), 29 I/O7 (io), 30 NC, 31 ~{CE} (in), 32 A10 (in)

## HN58C1001FP-15E
designator U?
HN58C1001 Series 1M EEPROM (128-kword × 8-bit) Ready/Busy and RES function; Published: 3-Mar-2010; DatasheetVersion: Rev.8.00, Nov-2003; PackageVersion: Sep-2005; PackageReference: PRSP0032DC-A; Publisher: Altium Limited; PackageDescription: 32-Pin Plastic Small Outline Package, 20.8 x 11.3 mm Body, 1.27 mm Pitch; Code_JEITA: P-SOP32-11.3x20.45-1.27; ComponentLink1Description: Manufacturer Link; ComponentLink1URL: http://sg.renesas.com/products/memory/memory_category_landing.jsp; ComponentLink2Description: Datasheet; ComponentLink2URL: http://documentation.renesas.com/eng/products/memory/rej03c0145_hn58c1001.pdf; ComponentLink3Description: Packaging Specification; ComponentLink3URL: http://sg.renesas.com/media/products/common_info/package/pdf/ic/code/prsp0032dc_a.pdf
footprint PRSP0032DC-A_N (SOP, 32-Leads, Body 20.8x11.3mm, Pitch 1.27mm, IPC Medium Density)
footprint PRSP0032DC-A_L (SOP, 32-Leads, Body 20.8x11.3mm, Pitch 1.27mm, IPC High Density)
footprint PRSP0032DC-A_M (SOP, 32-Leads, Body 20.8x11.3mm, Pitch 1.27mm, IPC Low Density)
pins: 1 RDY/~{Busy} (hiz), 2 A16 (in), 3 A14 (in), 4 A12 (in), 5 A7 (in), 6 A6 (in), 7 A5 (in), 8 A4 (in), 9 A3 (in), 10 A2 (in), 11 A1 (in), 12 A0 (in), 13 I/O0 (io), 14 I/O1 (io), 15 I/O2 (io), 16 VSS (power), 17 I/O3 (io), 18 I/O4 (io), 19 I/O5 (io), 20 I/O6 (io), 21 I/O7 (io), 22 ~{CE} (in), 23 A10 (in), 24 ~{OE} (in), 25 A11 (in), 26 A9 (in), 27 A8 (in), 28 A13 (in), 29 ~{WE} (in), 30 ~{RES} (in), 31 A15 (in), 32 VCC (power)

## HN58C1001T-15E
designator U?
HN58C1001 Series 1M EEPROM (128-kword × 8-bit) Ready/Busy and RES function; Published: 3-Mar-2010; DatasheetVersion: Rev.8.00, Nov-2003; PackageVersion: Oct-2006; PackageReference: PTSA0032KD-A; Publisher: Altium Limited; PackageDescription: 32-Pin Plastic Thin Shrink Small Outline Package 0.5 mm Pitch; Code_JEITA: P-TSOP(1)32-8x12.4-0.50; ComponentLink1Description: Manufacturer Link; ComponentLink1URL: http://sg.renesas.com/products/memory/memory_category_landing.jsp; ComponentLink2Description: Datasheet; ComponentLink2URL: http://documentation.renesas.com/eng/products/memory/rej03c0145_hn58c1001.pdf; ComponentLink3Description: Packaging Specification; ComponentLink3URL: http://sg.renesas.com/media/products/common_info/package/pdf/ic/code/ptsa0032kd_a.pdf
footprint PTSA0032KD-A_N (TSSOP, 32-Leads, Body 8x12.4mm, Pitch 0.5mm, IPC Medium Density)
footprint PTSA0032KD-A_L (TSSOP, 32-Leads, Body 8x12.4mm, Pitch 0.5mm, IPC High Density)
footprint PTSA0032KD-A_M (TSSOP, 32-Leads, Body 8x12.4mm, Pitch 0.5mm, IPC Low Density)
pins: 1 A11 (in), 2 A9 (in), 3 A8 (in), 4 A13 (in), 5 ~{WE} (in), 6 ~{RES} (in), 7 A15 (in), 8 VCC (power), 9 RDY/~{Busy} (hiz), 10 A16 (in), 11 A14 (in), 12 A12 (in), 13 A7 (in), 14 A6 (in), 15 A5 (in), 16 A4 (in), 17 A3 (in), 18 A2 (in), 19 A1 (in), 20 A0 (in), 21 I/O0 (io), 22 I/O1 (io), 23 I/O2 (io), 24 VSS (power), 25 I/O3 (io), 26 I/O4 (io), 27 I/O5 (io), 28 I/O6 (io), 29 I/O7 (io), 30 ~{CE} (in), 31 A10 (in), 32 ~{OE} (in)

## HN58V65AFP-10E
designator U?
HN58V66A Series 64 k EEPROM (8-kword × 8-bit); Published: 3-Mar-2010; DatasheetVersion: Rev.3.00, Dec-2003; PackageVersion: Sep-2005; PackageReference: PRSP0028DC-A; Publisher: Altium Limited; PackageDescription: 28-Pin Small Outline Integrated Circuit 1.27 mm Pitch; Code_JEITA: P-SOP28-8.4x18.3-1.27; ComponentLink1Description: Manufacturer Link; ComponentLink1URL: http://sg.renesas.com/products/memory/memory_category_landing.jsp; ComponentLink2Description: Datasheet; ComponentLink2URL: http://documentation.renesas.com/eng/products/memory/rej03c0149_hn58v65a.pdf; ComponentLink3Description: Packaging Specification; ComponentLink3URL: http://sg.renesas.com/media/products/common_info/package/pdf/ic/code/prsp0028dc_a.pdf
footprint PRSP0028DC-A_N (SOIC, 28-Leads, Body 18.3x8.4mm, Pitch 1.27mm, IPC Medium Density)
footprint PRSP0028DC-A_L (SOIC, 28-Leads, Body 18.3x8.4mm, Pitch 1.27mm, IPC High Density)
footprint PRSP0028DC-A_M (SOIC, 28-Leads, Body 18.3x8.4mm, Pitch 1.27mm, IPC Low Density)
pins: 1 RDY/~{Busy} (hiz), 2 A12 (in), 3 A7 (in), 4 A6 (in), 5 A5 (in), 6 A4 (in), 7 A3 (in), 8 A2 (in), 9 A1 (in), 10 A0 (in), 11 I/O0 (io), 12 I/O1 (io), 13 I/O2 (io), 14 VSS (power), 15 I/O3 (io), 16 I/O4 (io), 17 I/O5 (io), 18 I/O6 (io), 19 I/O7 (io), 20 ~{CE} (in), 21 A10 (in), 22 ~{OE} (in), 23 A11 (in), 24 A9 (in), 25 A8 (in), 26 NC, 27 ~{WE} (in), 28 VCC (power)

## HN58V65AFPI-10E
designator U?
HN58V65AI Series 64k EEPROM (8-kword × 8-bit)  Wide Temperature Range Version; Published: 3-Mar-2010; DatasheetVersion: Rev.3.00, Feb-2004; PackageVersion: Sep-2005; PackageReference: PRSP0028DC-A; Publisher: Altium Limited; PackageDescription: 28-Pin Small Outline Integrated Circuit 1.27 mm Pitch; Code_JEITA: P-SOP28-8.4x18.3-1.27; ComponentLink1Description: Manufacturer Link; ComponentLink1URL: http://sg.renesas.com/products/memory/memory_category_landing.jsp; ComponentLink2Description: Datasheet; ComponentLink2URL: http://documentation.renesas.com/eng/products/memory/rej03c0153_hn58v65ai.pdf; ComponentLink3Description: Packaging Specification; ComponentLink3URL: http://sg.renesas.com/media/products/common_info/package/pdf/ic/code/prsp0028dc_a.pdf
footprint PRSP0028DC-A_N (SOIC, 28-Leads, Body 18.3x8.4mm, Pitch 1.27mm, IPC Medium Density)
footprint PRSP0028DC-A_L (SOIC, 28-Leads, Body 18.3x8.4mm, Pitch 1.27mm, IPC High Density)
footprint PRSP0028DC-A_M (SOIC, 28-Leads, Body 18.3x8.4mm, Pitch 1.27mm, IPC Low Density)
pins: 1 RDY/~{Busy} (hiz), 2 A12 (in), 3 A7 (in), 4 A6 (in), 5 A5 (in), 6 A4 (in), 7 A3 (in), 8 A2 (in), 9 A1 (in), 10 A0 (in), 11 I/O0 (io), 12 I/O1 (io), 13 I/O2 (io), 14 VSS (power), 15 I/O3 (io), 16 I/O4 (io), 17 I/O5 (io), 18 I/O6 (io), 19 I/O7 (io), 20 ~{CE} (in), 21 A10 (in), 22 ~{OE} (in), 23 A11 (in), 24 A9 (in), 25 A8 (in), 26 NC, 27 ~{WE} (in), 28 VCC (power)

## HN58V65AP-10E
designator U?
HN58V66A Series 64 k EEPROM (8-kword × 8-bit); Published: 3-Mar-2010; DatasheetVersion: Rev.3.00, Dec-2003; PackageVersion: Sep-2005; PackageReference: PRDP0028AB-A; Publisher: Altium Limited; PackageDescription: 32-Pin Plastic DIP, 35.6 x 14 mm Body, 15.24 mm Row Spacing , 2.54 mm Pitch; Code_JEITA: P-DIP28-13.4x35.6-2.54; ComponentLink1Description: Manufacturer Link; ComponentLink1URL: http://sg.renesas.com/products/memory/memory_category_landing.jsp; ComponentLink2Description: Datasheet; ComponentLink2URL: http://documentation.renesas.com/eng/products/memory/rej03c0149_hn58v65a.pdf; ComponentLink3Description: Packaging Specification; ComponentLink3URL: http://sg.renesas.com/media/products/common_info/package/pdf/ic/code/prdp0028ab_a.pdf
footprint PRDP0028AB-A (DIP, 28-Leads, Row Spacing 15.24mm, Pitch 2.54mm, Body 35.6x14mm)
pins: 1 RDY/~{Busy} (hiz), 2 A12 (in), 3 A7 (in), 4 A6 (in), 5 A5 (in), 6 A4 (in), 7 A3 (in), 8 A2 (in), 9 A1 (in), 10 A0 (in), 11 I/O0 (io), 12 I/O1 (io), 13 I/O2 (io), 14 VSS (power), 15 I/O3 (io), 16 I/O4 (io), 17 I/O5 (io), 18 I/O6 (io), 19 I/O7 (io), 20 ~{CE} (in), 21 A10 (in), 22 ~{OE} (in), 23 A11 (in), 24 A9 (in), 25 A8 (in), 26 NC, 27 ~{WE} (in), 28 VCC (power)

## HN58V65API-10E
designator U?
HN58V65AI Series 64k EEPROM (8-kword × 8-bit)  Wide Temperature Range Version; Published: 3-Mar-2010; DatasheetVersion: Rev.3.00, Feb-2004; PackageVersion: Sep-2005; PackageReference: PRDP0028AB-A; Publisher: Altium Limited; PackageDescription: 32-Pin Plastic DIP, 35.6 x 14 mm Body, 15.24 mm Row Spacing , 2.54 mm Pitch; Code_JEITA: P-DIP28-13.4x35.6-2.54; ComponentLink1Description: Manufacturer Link; ComponentLink1URL: http://sg.renesas.com/products/memory/memory_category_landing.jsp; ComponentLink2Description: Datasheet; ComponentLink2URL: http://documentation.renesas.com/eng/products/memory/rej03c0153_hn58v65ai.pdf; ComponentLink3Description: Packaging Specification; ComponentLink3URL: http://sg.renesas.com/media/products/common_info/package/pdf/ic/code/prdp0028ab_a.pdf
footprint PRDP0028AB-A (DIP, 28-Leads, Row Spacing 15.24mm, Pitch 2.54mm, Body 35.6x14mm)
pins: 1 RDY/~{Busy} (hiz), 2 A12 (in), 3 A7 (in), 4 A6 (in), 5 A5 (in), 6 A4 (in), 7 A3 (in), 8 A2 (in), 9 A1 (in), 10 A0 (in), 11 I/O0 (io), 12 I/O1 (io), 13 I/O2 (io), 14 VSS (power), 15 I/O3 (io), 16 I/O4 (io), 17 I/O5 (io), 18 I/O6 (io), 19 I/O7 (io), 20 ~{CE} (in), 21 A10 (in), 22 ~{OE} (in), 23 A11 (in), 24 A9 (in), 25 A8 (in), 26 NC, 27 ~{WE} (in), 28 VCC (power)

## HN58V65AT-10E
designator U?
HN58V66A Series 64 k EEPROM (8-kword × 8-bit); Published: 3-Mar-2010; DatasheetVersion: Rev.3.00, Dec-2003; PackageVersion: Jun-2006; PackageReference: PTSA0028ZB-A; Publisher: Altium Limited; PackageDescription: 28-Pin Plastic Thin Shrink Small Outline Package 0.55 mm Pitch; Code_JEITA: P-TSOP(1)28-8x11.8-0.55; ComponentLink1Description: Manufacturer Link; ComponentLink1URL: http://sg.renesas.com/products/memory/memory_category_landing.jsp; ComponentLink2Description: Datasheet; ComponentLink2URL: http://documentation.renesas.com/eng/products/memory/rej03c0149_hn58v65a.pdf; ComponentLink3Description: Packaging Specification; ComponentLink3URL: http://sg.renesas.com/media/products/common_info/package/pdf/ic/code/ptsa0028zb_a.pdf
footprint PTSA0028ZB-A_N (TSSOP, 28-Leads, Body 8x11.8mm, Pitch 0.55mm, IPC Medium Density)
footprint PTSA0028ZB-A_L (TSSOP, 28-Leads, Body 8x11.8mm, Pitch 0.55mm, IPC High Density)
footprint PTSA0028ZB-A_M (TSSOP, 28-Leads, Body 8x11.8mm, Pitch 0.55mm, IPC Low Density)
pins: 1 ~{OE} (in), 2 A11 (in), 3 A9 (in), 4 A8 (in), 5 NC, 6 ~{WE} (in), 7 VCC (power), 8 RDY/~{Busy} (hiz), 9 A12 (in), 10 A7 (in), 11 A6 (in), 12 A5 (in), 13 A4 (in), 14 A3 (in), 15 A2 (in), 16 A1 (in), 17 A0 (in), 18 I/O0 (io), 19 I/O1 (io), 20 I/O2 (io), 21 VSS (power), 22 I/O3 (io), 23 I/O4 (io), 24 I/O5 (io), 25 I/O6 (io), 26 I/O7 (io), 27 ~{CE} (in), 28 A10 (in)

## HN58V65ATI-10E
designator U?
HN58V65AI Series 64k EEPROM (8-kword × 8-bit)  Wide Temperature Range Version; Published: 3-Mar-2010; DatasheetVersion: Rev.3.00, Feb-2004; PackageVersion: Jun-2006; PackageReference: PTSA0028ZB-A; Publisher: Altium Limited; PackageDescription: 28-Pin Plastic Thin Shrink Small Outline Package 0.55 mm Pitch; Code_JEITA: P-TSOP(1)28-8x11.8-0.55; ComponentLink1Description: Manufacturer Link; ComponentLink1URL: http://sg.renesas.com/products/memory/memory_category_landing.jsp; ComponentLink2Description: Datasheet; ComponentLink2URL: http://documentation.renesas.com/eng/products/memory/rej03c0153_hn58v65ai.pdf; ComponentLink3Description: Packaging Specification; ComponentLink3URL: http://sg.renesas.com/media/products/common_info/package/pdf/ic/code/ptsa0028zb_a.pdf
footprint PTSA0028ZB-A_N (TSSOP, 28-Leads, Body 8x11.8mm, Pitch 0.55mm, IPC Medium Density)
footprint PTSA0028ZB-A_L (TSSOP, 28-Leads, Body 8x11.8mm, Pitch 0.55mm, IPC High Density)
footprint PTSA0028ZB-A_M (TSSOP, 28-Leads, Body 8x11.8mm, Pitch 0.55mm, IPC Low Density)
pins: 1 ~{OE} (in), 2 A11 (in), 3 A9 (in), 4 A8 (in), 5 NC, 6 ~{WE} (in), 7 VCC (power), 8 RDY/~{Busy} (hiz), 9 A12 (in), 10 A7 (in), 11 A6 (in), 12 A5 (in), 13 A4 (in), 14 A3 (in), 15 A2 (in), 16 A1 (in), 17 A0 (in), 18 I/O0 (io), 19 I/O1 (io), 20 I/O2 (io), 21 VSS (power), 22 I/O3 (io), 23 I/O4 (io), 24 I/O5 (io), 25 I/O6 (io), 26 I/O7 (io), 27 ~{CE} (in), 28 A10 (in)

## HN58V66AFP-10E
designator U?
HN58V66A Series 64 k EEPROM (8-kword × 8-bit) Ready/Busy Function, RES Function; Published: 3-Mar-2010; DatasheetVersion: Rev.3.00, Dec-2003; PackageVersion: Sep-2005; PackageReference: PRSP0028DC-A; Publisher: Altium Limited; PackageDescription: 28-Pin Small Outline Integrated Circuit 1.27 mm Pitch; Code_JEITA: P-SOP28-8.4x18.3-1.27; ComponentLink1Description: Manufacturer Link; ComponentLink1URL: http://sg.renesas.com/products/memory/memory_category_landing.jsp; ComponentLink2Description: Datasheet; ComponentLink2URL: http://documentation.renesas.com/eng/products/memory/rej03c0149_hn58v65a.pdf; ComponentLink3Description: Packaging Specification; ComponentLink3URL: http://sg.renesas.com/media/products/common_info/package/pdf/ic/code/prsp0028dc_a.pdf
footprint PRSP0028DC-A_N (SOIC, 28-Leads, Body 18.3x8.4mm, Pitch 1.27mm, IPC Medium Density)
footprint PRSP0028DC-A_L (SOIC, 28-Leads, Body 18.3x8.4mm, Pitch 1.27mm, IPC High Density)
footprint PRSP0028DC-A_M (SOIC, 28-Leads, Body 18.3x8.4mm, Pitch 1.27mm, IPC Low Density)
pins: 1 RDY/~{Busy} (hiz), 2 A12 (in), 3 A7 (in), 4 A6 (in), 5 A5 (in), 6 A4 (in), 7 A3 (in), 8 A2 (in), 9 A1 (in), 10 A0 (in), 11 I/O0 (io), 12 I/O1 (io), 13 I/O2 (io), 14 VSS (power), 15 I/O3 (io), 16 I/O4 (io), 17 I/O5 (io), 18 I/O6 (io), 19 I/O7 (io), 20 ~{CE} (in), 21 A10 (in), 22 ~{OE} (in), 23 A11 (in), 24 A9 (in), 25 A8 (in), 26 ~{RES} (in), 27 ~{WE} (in), 28 VCC (power)

## HN58V66AFPI-10E
designator U?
HN58V66AI Series 64k EEPROM (8-kword × 8-bit) Ready/Busy function, RES function, Wide Temperature Range Version; Published: 3-Mar-2010; DatasheetVersion: Rev.3.00, Feb-2004; PackageVersion: Sep-2005; PackageReference: PRSP0028DC-A; Publisher: Altium Limited; PackageDescription: 28-Pin Small Outline Integrated Circuit 1.27 mm Pitch; Code_JEITA: P-SOP28-8.4x18.3-1.27; ComponentLink1Description: Manufacturer Link; ComponentLink1URL: http://sg.renesas.com/products/memory/memory_category_landing.jsp; ComponentLink2Description: Datasheet; ComponentLink2URL: http://documentation.renesas.com/eng/products/memory/rej03c0153_hn58v65ai.pdf; ComponentLink3Description: Packaging Specification; ComponentLink3URL: http://sg.renesas.com/media/products/common_info/package/pdf/ic/code/prsp0028dc_a.pdf
footprint PRSP0028DC-A_N (SOIC, 28-Leads, Body 18.3x8.4mm, Pitch 1.27mm, IPC Medium Density)
footprint PRSP0028DC-A_L (SOIC, 28-Leads, Body 18.3x8.4mm, Pitch 1.27mm, IPC High Density)
footprint PRSP0028DC-A_M (SOIC, 28-Leads, Body 18.3x8.4mm, Pitch 1.27mm, IPC Low Density)
pins: 1 RDY/~{Busy} (hiz), 2 A12 (in), 3 A7 (in), 4 A6 (in), 5 A5 (in), 6 A4 (in), 7 A3 (in), 8 A2 (in), 9 A1 (in), 10 A0 (in), 11 I/O0 (io), 12 I/O1 (io), 13 I/O2 (io), 14 VSS (power), 15 I/O3 (io), 16 I/O4 (io), 17 I/O5 (io), 18 I/O6 (io), 19 I/O7 (io), 20 ~{CE} (in), 21 A10 (in), 22 ~{OE} (in), 23 A11 (in), 24 A9 (in), 25 A8 (in), 26 ~{RES} (in), 27 ~{WE} (in), 28 VCC (power)

## HN58V66AP-10E
designator U?
HN58V66A Series 64 k EEPROM (8-kword × 8-bit) Ready/Busy Function, RES Function; Published: 3-Mar-2010; DatasheetVersion: Rev.3.00, Dec-2003; PackageVersion: Sep-2005; PackageReference: PRDP0028AB-A; Publisher: Altium Limited; PackageDescription: 32-Pin Plastic DIP, 35.6 x 14 mm Body, 15.24 mm Row Spacing , 2.54 mm Pitch; Code_JEITA: P-DIP28-13.4x35.6-2.54; ComponentLink1Description: Manufacturer Link; ComponentLink1URL: http://sg.renesas.com/products/memory/memory_category_landing.jsp; ComponentLink2Description: Datasheet; ComponentLink2URL: http://documentation.renesas.com/eng/products/memory/rej03c0149_hn58v65a.pdf; ComponentLink3Description: Packaging Specification; ComponentLink3URL: http://sg.renesas.com/media/products/common_info/package/pdf/ic/code/prdp0028ab_a.pdf
footprint PRDP0028AB-A (DIP, 28-Leads, Row Spacing 15.24mm, Pitch 2.54mm, Body 35.6x14mm)
pins: 1 RDY/~{Busy} (hiz), 2 A12 (in), 3 A7 (in), 4 A6 (in), 5 A5 (in), 6 A4 (in), 7 A3 (in), 8 A2 (in), 9 A1 (in), 10 A0 (in), 11 I/O0 (io), 12 I/O1 (io), 13 I/O2 (io), 14 VSS (power), 15 I/O3 (io), 16 I/O4 (io), 17 I/O5 (io), 18 I/O6 (io), 19 I/O7 (io), 20 ~{CE} (in), 21 A10 (in), 22 ~{OE} (in), 23 A11 (in), 24 A9 (in), 25 A8 (in), 26 ~{RES} (in), 27 ~{WE} (in), 28 VCC (power)

## HN58V66API-10E
designator U?
HN58V66AI Series 64k EEPROM (8-kword × 8-bit) Ready/Busy function, RES function, Wide Temperature Range Version; Published: 3-Mar-2010; DatasheetVersion: Rev.3.00, Feb-2004; PackageVersion: Sep-2005; PackageReference: PRDP0028AB-A; Publisher: Altium Limited; PackageDescription: 32-Pin Plastic DIP, 35.6 x 14 mm Body, 15.24 mm Row Spacing , 2.54 mm Pitch; Code_JEITA: P-DIP28-13.4x35.6-2.54; ComponentLink1Description: Manufacturer Link; ComponentLink1URL: http://sg.renesas.com/products/memory/memory_category_landing.jsp; ComponentLink2Description: Datasheet; ComponentLink2URL: http://documentation.renesas.com/eng/products/memory/rej03c0153_hn58v65ai.pdf; ComponentLink3Description: Packaging Specification; ComponentLink3URL: http://sg.renesas.com/media/products/common_info/package/pdf/ic/code/prdp0028ab_a.pdf
footprint PRDP0028AB-A (DIP, 28-Leads, Row Spacing 15.24mm, Pitch 2.54mm, Body 35.6x14mm)
pins: 1 RDY/~{Busy} (hiz), 2 A12 (in), 3 A7 (in), 4 A6 (in), 5 A5 (in), 6 A4 (in), 7 A3 (in), 8 A2 (in), 9 A1 (in), 10 A0 (in), 11 I/O0 (io), 12 I/O1 (io), 13 I/O2 (io), 14 VSS (power), 15 I/O3 (io), 16 I/O4 (io), 17 I/O5 (io), 18 I/O6 (io), 19 I/O7 (io), 20 ~{CE} (in), 21 A10 (in), 22 ~{OE} (in), 23 A11 (in), 24 A9 (in), 25 A8 (in), 26 ~{RES} (in), 27 ~{WE} (in), 28 VCC (power)

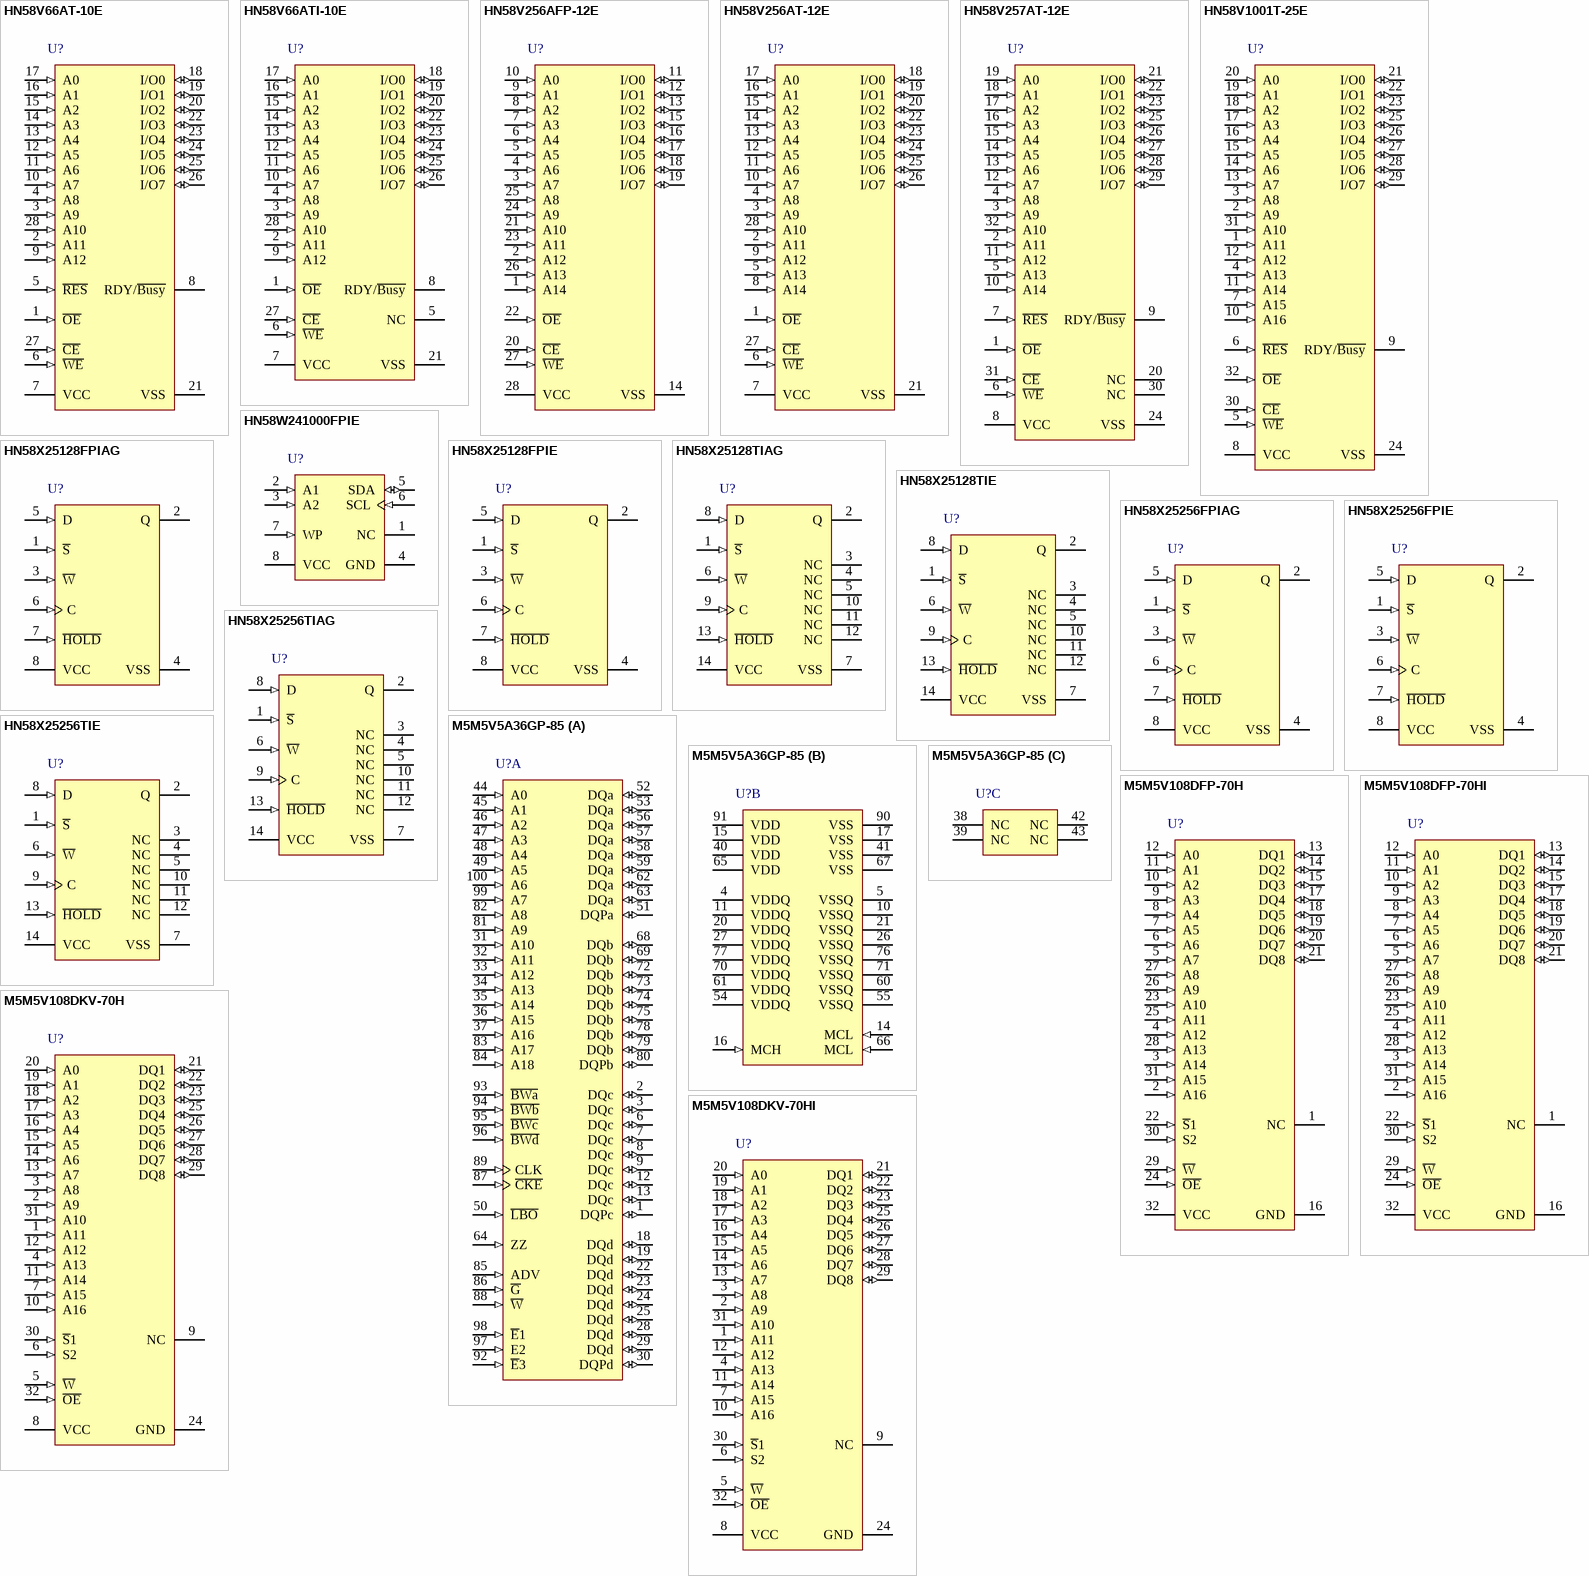
[diagram p2: symbols HN58V66AT-10E to M5M5V108DKV-70HI]

## HN58V66AT-10E
designator U?
HN58V66A Series 64 k EEPROM (8-kword × 8-bit) Ready/Busy Function, RES Function; Published: 3-Mar-2010; DatasheetVersion: Rev.3.00, Dec-2003; PackageVersion: Jun-2006; PackageReference: PTSA0028ZB-A; Publisher: Altium Limited; PackageDescription: 28-Pin Plastic Thin Shrink Small Outline Package 0.55 mm Pitch; Code_JEITA: P-TSOP(1)28-8x11.8-0.55; ComponentLink1Description: Manufacturer Link; ComponentLink1URL: http://sg.renesas.com/products/memory/memory_category_landing.jsp; ComponentLink2Description: Datasheet; ComponentLink2URL: http://documentation.renesas.com/eng/products/memory/rej03c0149_hn58v65a.pdf; ComponentLink3Description: Packaging Specification; ComponentLink3URL: http://sg.renesas.com/media/products/common_info/package/pdf/ic/code/ptsa0028zb_a.pdf
footprint PTSA0028ZB-A_N (TSSOP, 28-Leads, Body 8x11.8mm, Pitch 0.55mm, IPC Medium Density)
footprint PTSA0028ZB-A_L (TSSOP, 28-Leads, Body 8x11.8mm, Pitch 0.55mm, IPC High Density)
footprint PTSA0028ZB-A_M (TSSOP, 28-Leads, Body 8x11.8mm, Pitch 0.55mm, IPC Low Density)
pins: 1 ~{OE} (in), 2 A11 (in), 3 A9 (in), 4 A8 (in), 5 ~{RES} (in), 6 ~{WE} (in), 7 VCC (power), 8 RDY/~{Busy} (hiz), 9 A12 (in), 10 A7 (in), 11 A6 (in), 12 A5 (in), 13 A4 (in), 14 A3 (in), 15 A2 (in), 16 A1 (in), 17 A0 (in), 18 I/O0 (io), 19 I/O1 (io), 20 I/O2 (io), 21 VSS (power), 22 I/O3 (io), 23 I/O4 (io), 24 I/O5 (io), 25 I/O6 (io), 26 I/O7 (io), 27 ~{CE} (in), 28 A10 (in)

## HN58V66ATI-10E
designator U?
HN58V66AI Series 64k EEPROM (8-kword × 8-bit) Ready/Busy function, RES function, Wide Temperature Range Version; Published: 3-Mar-2010; DatasheetVersion: Rev.3.00, Feb-2004; PackageVersion: Jun-2006; PackageReference: PTSA0028ZB-A; Publisher: Altium Limited; PackageDescription: 28-Pin Plastic Thin Shrink Small Outline Package 0.55 mm Pitch; Code_JEITA: P-TSOP(1)28-8x11.8-0.55; ComponentLink1Description: Manufacturer Link; ComponentLink1URL: http://sg.renesas.com/products/memory/memory_category_landing.jsp; ComponentLink2Description: Datasheet; ComponentLink2URL: http://documentation.renesas.com/eng/products/memory/rej03c0153_hn58v65ai.pdf; ComponentLink3Description: Packaging Specification; ComponentLink3URL: http://sg.renesas.com/media/products/common_info/package/pdf/ic/code/ptsa0028zb_a.pdf
footprint PTSA0028ZB-A_N (TSSOP, 28-Leads, Body 8x11.8mm, Pitch 0.55mm, IPC Medium Density)
footprint PTSA0028ZB-A_L (TSSOP, 28-Leads, Body 8x11.8mm, Pitch 0.55mm, IPC High Density)
footprint PTSA0028ZB-A_M (TSSOP, 28-Leads, Body 8x11.8mm, Pitch 0.55mm, IPC Low Density)
pins: 1 ~{OE} (in), 2 A11 (in), 3 A9 (in), 4 A8 (in), 5 NC, 6 ~{WE} (in), 7 VCC (power), 8 RDY/~{Busy} (hiz), 9 A12 (in), 10 A7 (in), 11 A6 (in), 12 A5 (in), 13 A4 (in), 14 A3 (in), 15 A2 (in), 16 A1 (in), 17 A0 (in), 18 I/O0 (io), 19 I/O1 (io), 20 I/O2 (io), 21 VSS (power), 22 I/O3 (io), 23 I/O4 (io), 24 I/O5 (io), 25 I/O6 (io), 26 I/O7 (io), 27 ~{CE} (in), 28 A10 (in)

## HN58V256AFP-12E
designator U?
HN58V256A Series 256k EEPROM (32-kword × 8-bit); Published: 3-Mar-2010; DatasheetVersion: Rev.5.00, Nov-2003; PackageVersion: Sep-2005; PackageReference: PRSP0028DC-A; Publisher: Altium Limited; PackageDescription: 28-Pin Small Outline Integrated Circuit 1.27 mm Pitch; Code_JEITA: P-SOP28-8.4x18.3-1.27; ComponentLink1Description: Manufacturer Link; ComponentLink1URL: http://sg.renesas.com/products/memory/memory_category_landing.jsp; ComponentLink2Description: Datasheet; ComponentLink2URL: http://documentation.renesas.com/eng/products/memory/rej03c0147_hn58v25xa.pdf; ComponentLink3Description: Packaging Specification; ComponentLink3URL: http://sg.renesas.com/media/products/common_info/package/pdf/ic/code/prsp0028dc_a.pdf
footprint PRSP0028DC-A_N (SOIC, 28-Leads, Body 18.3x8.4mm, Pitch 1.27mm, IPC Medium Density)
footprint PRSP0028DC-A_L (SOIC, 28-Leads, Body 18.3x8.4mm, Pitch 1.27mm, IPC High Density)
footprint PRSP0028DC-A_M (SOIC, 28-Leads, Body 18.3x8.4mm, Pitch 1.27mm, IPC Low Density)
pins: 1 A14 (in), 2 A12 (in), 3 A7 (in), 4 A6 (in), 5 A5 (in), 6 A4 (in), 7 A3 (in), 8 A2 (in), 9 A1 (in), 10 A0 (in), 11 I/O0 (io), 12 I/O1 (io), 13 I/O2 (io), 14 VSS (power), 15 I/O3 (io), 16 I/O4 (io), 17 I/O5 (io), 18 I/O6 (io), 19 I/O7 (io), 20 ~{CE} (in), 21 A10 (in), 22 ~{OE} (in), 23 A11 (in), 24 A9 (in), 25 A8 (in), 26 A13 (in), 27 ~{WE} (in), 28 VCC (power)

## HN58V256AT-12E
designator U?
HN58V256A Series 256k EEPROM (32-kword × 8-bit); Published: 3-Mar-2010; DatasheetVersion: Rev.5.00, Nov-2003; PackageVersion: Jun-2006; PackageReference: PTSA0028ZB-A; Publisher: Altium Limited; PackageDescription: 28-Pin Plastic Thin Shrink Small Outline Package 0.55 mm Pitch; Code_JEITA: P-TSOP(1)28-8x11.8-0.55; ComponentLink1Description: Manufacturer Link; ComponentLink1URL: http://sg.renesas.com/products/memory/memory_category_landing.jsp; ComponentLink2Description: Datasheet; ComponentLink2URL: http://documentation.renesas.com/eng/products/memory/rej03c0147_hn58v25xa.pdf; ComponentLink3Description: Packaging Specification; ComponentLink3URL: http://sg.renesas.com/media/products/common_info/package/pdf/ic/code/ptsa0028zb_a.pdf
footprint PTSA0028ZB-A_N (TSSOP, 28-Leads, Body 8x11.8mm, Pitch 0.55mm, IPC Medium Density)
footprint PTSA0028ZB-A_L (TSSOP, 28-Leads, Body 8x11.8mm, Pitch 0.55mm, IPC High Density)
footprint PTSA0028ZB-A_M (TSSOP, 28-Leads, Body 8x11.8mm, Pitch 0.55mm, IPC Low Density)
pins: 1 ~{OE} (in), 2 A11 (in), 3 A9 (in), 4 A8 (in), 5 A13 (in), 6 ~{WE} (in), 7 VCC (power), 8 A14 (in), 9 A12 (in), 10 A7 (in), 11 A6 (in), 12 A5 (in), 13 A4 (in), 14 A3 (in), 15 A2 (in), 16 A1 (in), 17 A0 (in), 18 I/O0 (io), 19 I/O1 (io), 20 I/O2 (io), 21 VSS (power), 22 I/O3 (io), 23 I/O4 (io), 24 I/O5 (io), 25 I/O6 (io), 26 I/O7 (io), 27 ~{CE} (in), 28 A10 (in)

## HN58V257AT-12E
designator U?
HN58V257A Series 256k EEPROM (32-kword × 8-bit) Ready/Busy and RES function; Published: 3-Mar-2010; DatasheetVersion: Rev.5.00, Nov-2003; PackageVersion: Oct-2006; PackageReference: PTSA0032KD-A; Publisher: Altium Limited; PackageDescription: 32-Pin Plastic Thin Shrink Small Outline Package 0.5 mm Pitch; Code_JEITA: P-TSOP(1)32-8x12.4-0.50; ComponentLink1Description: Manufacturer Link; ComponentLink1URL: http://sg.renesas.com/products/memory/memory_category_landing.jsp; ComponentLink2Description: Datasheet; ComponentLink2URL: http://documentation.renesas.com/eng/products/memory/rej03c0147_hn58v25xa.pdf; ComponentLink3Description: Packaging Specification; ComponentLink3URL: http://sg.renesas.com/media/products/common_info/package/pdf/ic/code/ptsa0032kd_a.pdf
footprint PTSA0032KD-A_N (TSSOP, 32-Leads, Body 8x12.4mm, Pitch 0.5mm, IPC Medium Density)
footprint PTSA0032KD-A_L (TSSOP, 32-Leads, Body 8x12.4mm, Pitch 0.5mm, IPC High Density)
footprint PTSA0032KD-A_M (TSSOP, 32-Leads, Body 8x12.4mm, Pitch 0.5mm, IPC Low Density)
pins: 1 ~{OE} (in), 2 A11 (in), 3 A9 (in), 4 A8 (in), 5 A13 (in), 6 ~{WE} (in), 7 ~{RES} (in), 8 VCC (power), 9 RDY/~{Busy} (hiz), 10 A14 (in), 11 A12 (in), 12 A7 (in), 13 A6 (in), 14 A5 (in), 15 A4 (in), 16 A3 (in), 17 A2 (in), 18 A1 (in), 19 A0 (in), 20 NC, 21 I/O0 (io), 22 I/O1 (io), 23 I/O2 (io), 24 VSS (power), 25 I/O3 (io), 26 I/O4 (io), 27 I/O5 (io), 28 I/O6 (io), 29 I/O7 (io), 30 NC, 31 ~{CE} (in), 32 A10 (in)